# Altium integrated library ST Video VCR Rec Playback Amp.IntLib: 21 symbols
Pins are listed as number, name and electrical type; pins without a type are passive.

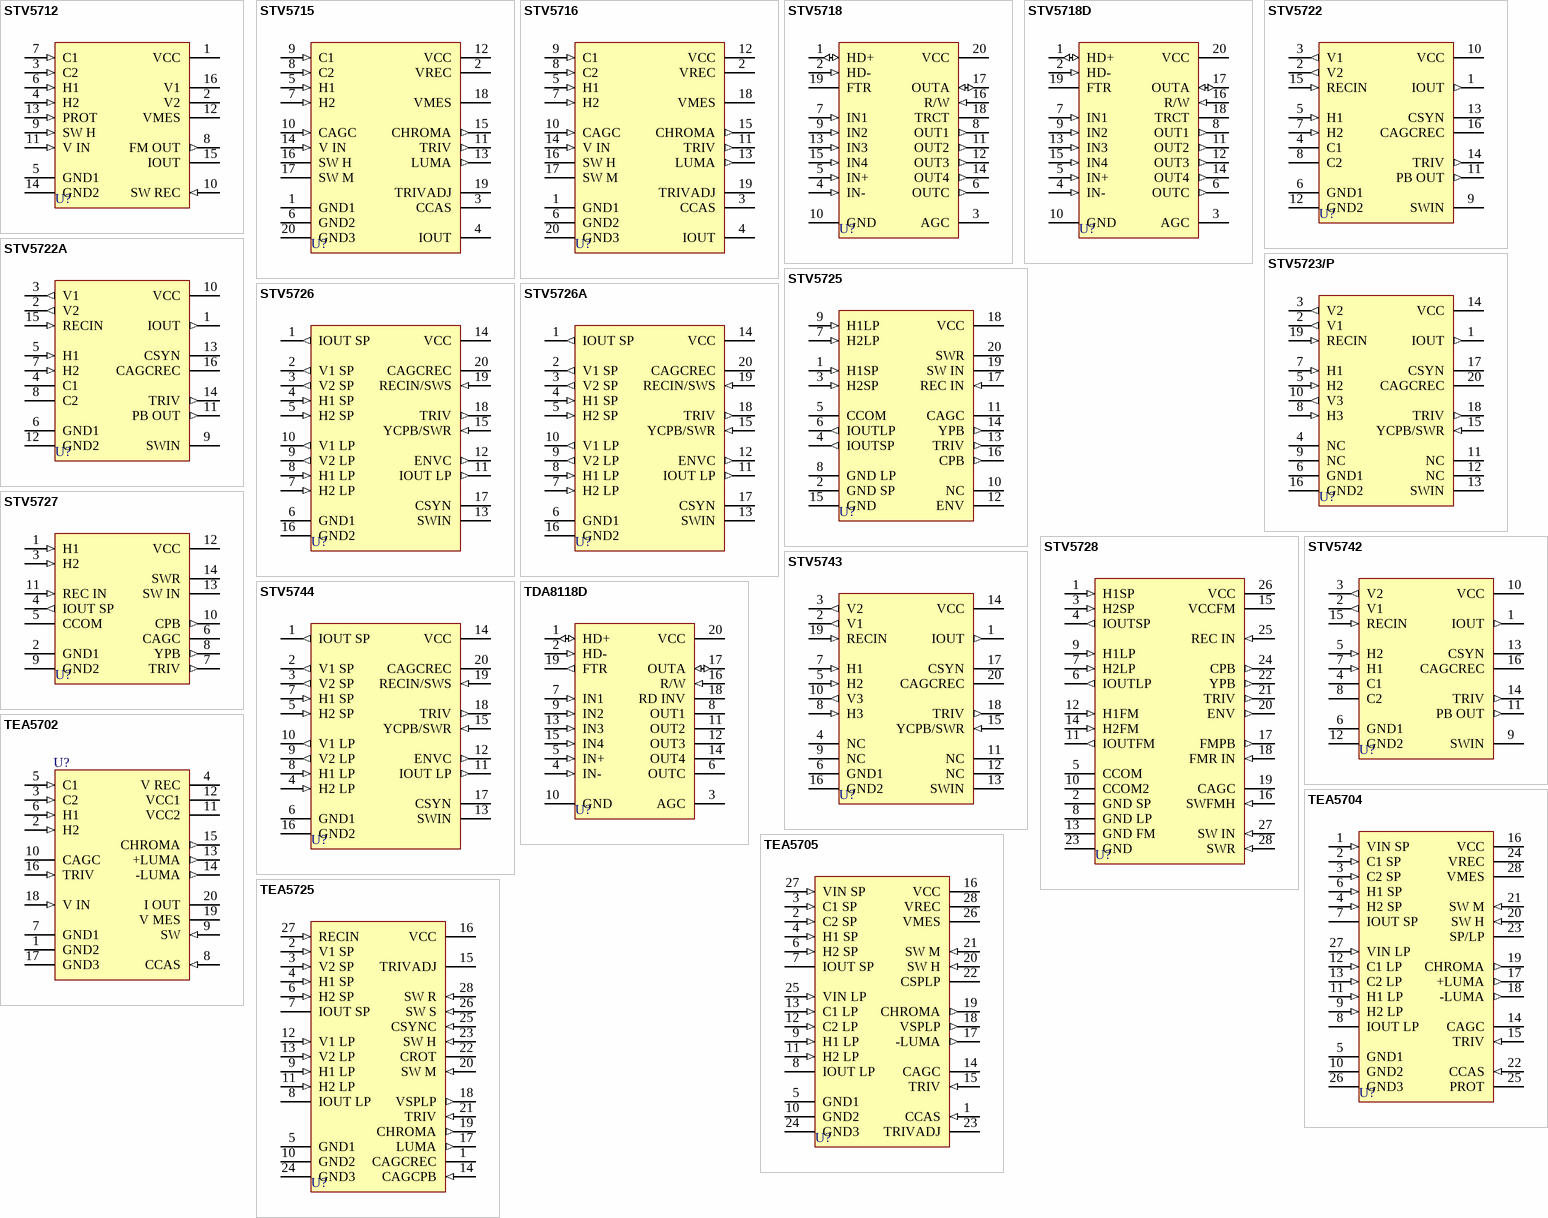
[diagram p0: symbols STV5712 to TEA5725]

## STV5712
designator U?
Advanced FM Audio Playback and Record Amplifier for VCR; Published: 24-Aug-2001; LatestRevisionDate: 17-Jul-2002; LatestRevisionNote: Re-released for DXP Platform.; DatasheetDocument: Apr-1996; PackageDocument: May-1998; PackageReference: SO16; Publisher: Altium Limited
footprint SO16 (Small Outline; 16 Leads; Body Width 3.9 mm; Pitch 1.27 mm)
pins: 1 VCC (power), 2 V2 (oe), 3 C2 (in), 4 H2 (in), 5 GND1 (power), 6 H1 (in), 7 C1 (in), 8 FM OUT (out), 9 SW H (in), 10 SW REC (in), 11 V IN (in), 12 VMES (oe), 13 PROT (in), 14 GND2 (power), 15 IOUT (oc), 16 V1 (oe)

## STV5715
designator U?
Advanced 2-Head Playback and Record Amplifier for VCR; Published: 24-Aug-2001; LatestRevisionDate: 17-Jul-2002; LatestRevisionNote: Re-released for DXP Platform.; DatasheetDocument: Nov-1993; PackageDocument: Jul-2001; PackageReference: SO20; Publisher: Altium Limited; Code_JEDEC: MS-013-AC; Code_IPC: SO20W
footprint SO20 (Small Outline, Plastic; 20 Leads; Body Width 7.5 mm; Pitch 1.27 mm)
pins: 1 GND1 (power), 2 VREC (power), 3 CCAS, 4 IOUT (oc), 5 H1 (in), 6 GND2 (power), 7 H2 (in), 8 C2 (in), 9 C1 (in), 10 CAGC (in), 11 TRIV (out), 12 VCC (power), 13 LUMA (out), 14 V IN (in), 15 CHROMA (out), 16 SW H, 17 SW M, 18 VMES (oe), 19 TRIVADJ, 20 GND3 (power)

## STV5716
designator U?
Advanced 2-Head Playback and Record Amplifier for VCR; Published: 24-Aug-2001; LatestRevisionDate: 17-Jul-2002; LatestRevisionNote: Re-released for DXP Platform.; DatasheetDocument: Feb-1994; PackageDocument: Jul-2001; PackageReference: SO20; Publisher: Altium Limited; Code_JEDEC: MS-013-AC; Code_IPC: SO20W
footprint SO20 (Small Outline, Plastic; 20 Leads; Body Width 7.5 mm; Pitch 1.27 mm)
pins: 1 GND1 (power), 2 VREC (power), 3 CCAS, 4 IOUT (oc), 5 H1 (in), 6 GND2 (power), 7 H2 (in), 8 C2 (in), 9 C1 (in), 10 CAGC (in), 11 TRIV (out), 12 VCC (power), 13 LUMA (out), 14 V IN (in), 15 CHROMA (out), 16 SW H, 17 SW M, 18 VMES (oe), 19 TRIVADJ, 20 GND3 (power)

## STV5718
designator U?
Control Head Playback and Record Amplifier and signal Interface; Published: 24-Aug-2001; LatestRevisionDate: 17-Jul-2002; LatestRevisionNote: Re-released for DXP Platform.; DatasheetDocument: Oct-1992; PackageDocument: Jun-1998; PackageReference: DIP20; Publisher: Altium Limited; Code_JEDEC: MS-015-AE
footprint DIP20 (DIP; 20 Leads; Row Spacing 7.62 mm; Pitch 2.54 mm)
pins: 1 HD+ (io), 2 HD- (in), 3 AGC, 4 IN- (in), 5 IN+ (in), 6 OUTC (out), 7 IN1 (in), 8 OUT1 (out), 9 IN2 (in), 10 GND (power), 11 OUT2 (out), 12 OUT3 (out), 13 IN3 (in), 14 OUT4 (out), 15 IN4 (in), 16 R/W (in), 17 OUTA (io), 18 TRCT, 19 FTR, 20 VCC (power)

## STV5718D
designator U?
Control Head Playback and Record Amplifier and signal Interface; Published: 24-Aug-2001; LatestRevisionDate: 17-Jul-2002; LatestRevisionNote: Re-released for DXP Platform.; DatasheetDocument: Oct-1992; PackageDocument: Jul-2001; PackageReference: SO20; Publisher: Altium Limited; Code_JEDEC: MS-013-AC; Code_IPC: SO20W
footprint SO20 (Small Outline, Plastic; 20 Leads; Body Width 7.5 mm; Pitch 1.27 mm)
pins: 1 HD+ (io), 2 HD- (in), 3 AGC, 4 IN- (in), 5 IN+ (in), 6 OUTC (out), 7 IN1 (in), 8 OUT1 (out), 9 IN2 (in), 10 GND (power), 11 OUT2 (out), 12 OUT3 (out), 13 IN3 (in), 14 OUT4 (out), 15 IN4 (in), 16 R/W (in), 17 OUTA (io), 18 TRCT, 19 FTR, 20 VCC (power)

## STV5722
designator U?
2-Head Playback and Record Amplifier for VCR; Published: 24-Aug-2001; LatestRevisionDate: 17-Jul-2002; LatestRevisionNote: Re-released for DXP Platform.; DatasheetDocument: Feb-1994; PackageDocument: May-1998; PackageReference: SO16; Publisher: Altium Limited
footprint SO16 (Small Outline; 16 Leads; Body Width 3.9 mm; Pitch 1.27 mm)
pins: 1 IOUT (out), 2 V2 (out), 3 V1 (out), 4 C1, 5 H1 (in), 6 GND1 (power), 7 H2 (in), 8 C2, 9 SWIN, 10 VCC (power), 11 PB OUT (out), 12 GND2 (power), 13 CSYN, 14 TRIV (out), 15 RECIN (in), 16 CAGCREC

## STV5722A
designator U?
2-Head Playback and Record Amplifier for VCR; Published: 24-Aug-2001; LatestRevisionDate: 17-Jul-2002; LatestRevisionNote: Re-released for DXP Platform.; DatasheetDocument: Jul-1994; PackageDocument: May-1998; PackageReference: SO16; Publisher: Altium Limited
footprint SO16 (Small Outline; 16 Leads; Body Width 3.9 mm; Pitch 1.27 mm)
pins: 1 IOUT (out), 2 V2 (out), 3 V1 (out), 4 C1, 5 H1 (in), 6 GND1 (power), 7 H2 (in), 8 C2, 9 SWIN, 10 VCC (power), 11 PB OUT (out), 12 GND2 (power), 13 CSYN, 14 TRIV (out), 15 RECIN (in), 16 CAGCREC

## STV5723/P
designator U?
3-Head Playback and Record Amplifier for VCR; Published: 24-Aug-2001; LatestRevisionDate: 17-Jul-2002; LatestRevisionNote: Re-released for DXP Platform.; DatasheetDocument: Mar-1993; PackageDocument: Jul-2001; PackageReference: SO20; Publisher: Altium Limited; Code_JEDEC: MS-013-AC; Code_IPC: SO20W
footprint SO20 (Small Outline, Plastic; 20 Leads; Body Width 7.5 mm; Pitch 1.27 mm)
pins: 1 IOUT (out), 2 V1 (out), 3 V2 (out), 4 NC, 5 H2 (in), 6 GND1 (power), 7 H1 (in), 8 H3 (in), 9 NC, 10 V3 (out), 11 NC, 12 NC, 13 SWIN, 14 VCC (power), 15 YCPB/SWR (in), 16 GND2 (power), 17 CSYN, 18 TRIV (out), 19 RECIN (in), 20 CAGCREC

## STV5725
designator U?
4-Head Playback and Record Amplifier for VCR; Published: 24-Aug-2001; LatestRevisionDate: 17-Jul-2002; LatestRevisionNote: Re-released for DXP Platform.; DatasheetDocument: Sep-1996; PackageDocument: Jul-2001; PackageReference: SO20; Publisher: Altium Limited; Code_JEDEC: MS-013-AC; Code_IPC: SO20W
footprint SO20 (Small Outline, Plastic; 20 Leads; Body Width 7.5 mm; Pitch 1.27 mm)
pins: 1 H1SP (in), 2 GND SP (power), 3 H2SP (in), 4 IOUTSP (out), 5 CCOM, 6 IOUTLP (out), 7 H2LP (in), 8 GND LP (power), 9 H1LP (in), 10 NC, 11 CAGC, 12 ENV, 13 TRIV (out), 14 YPB (out), 15 GND (power), 16 CPB (out), 17 REC IN (in), 18 VCC (power), 19 SW IN, 20 SWR

## STV5726
designator U?
4-Head Playback and Record Amplifier for VCR; Published: 24-Aug-2001; LatestRevisionDate: 17-Jul-2002; LatestRevisionNote: Re-released for DXP Platform.; DatasheetDocument: Feb-1994; PackageDocument: Jul-2001; PackageReference: SO20; Publisher: Altium Limited; Code_JEDEC: MS-013-AC; Code_IPC: SO20W
footprint SO20 (Small Outline, Plastic; 20 Leads; Body Width 7.5 mm; Pitch 1.27 mm)
pins: 1 IOUT SP (out), 2 V1 SP (out), 3 V2 SP (out), 4 H1 SP (in), 5 H2 SP (in), 6 GND1 (power), 7 H2 LP (in), 8 H1 LP (in), 9 V2 LP (out), 10 V1 LP (out), 11 IOUT LP (out), 12 ENVC (out), 13 SWIN, 14 VCC (power), 15 YCPB/SWR (in), 16 GND2 (power), 17 CSYN, 18 TRIV (out), 19 RECIN/SWS (in), 20 CAGCREC

## STV5726A
designator U?
4-Head Playback and Record Amplifier for VCR; Published: 24-Aug-2001; LatestRevisionDate: 17-Jul-2002; LatestRevisionNote: Re-released for DXP Platform.; DatasheetDocument: Feb-1997; PackageDocument: Jul-2001; PackageReference: SO20; Publisher: Altium Limited; Code_JEDEC: MS-013-AC; Code_IPC: SO20W
footprint SO20 (Small Outline, Plastic; 20 Leads; Body Width 7.5 mm; Pitch 1.27 mm)
pins: 1 IOUT SP (out), 2 V1 SP (out), 3 V2 SP (out), 4 H1 SP (in), 5 H2 SP (in), 6 GND1 (power), 7 H2 LP (in), 8 H1 LP (in), 9 V2 LP (out), 10 V1 LP (out), 11 IOUT LP (out), 12 ENVC (out), 13 SWIN, 14 VCC (power), 15 YCPB/SWR (in), 16 GND2 (power), 17 CSYN, 18 TRIV (out), 19 RECIN/SWS (in), 20 CAGCREC

## STV5727
designator U?
2-Head Playback and Record Amplifier for VCR; Published: 24-Aug-2001; LatestRevisionDate: 17-Jul-2002; LatestRevisionNote: Re-released for DXP Platform.; DatasheetDocument: Sep-1996; PackageDocument: Sep-1998; PackageReference: SO14; Publisher: Altium Limited
footprint SO14 (Small Outline; 14 Leads; Body Width 3.9 mm; Pitch 1.27 mm)
pins: 1 H1 (in), 2 GND1 (power), 3 H2 (in), 4 IOUT SP (out), 5 CCOM, 6 CAGC, 7 TRIV (out), 8 YPB (out), 9 GND2 (power), 10 CPB (out), 11 REC IN (in), 12 VCC (power), 13 SW IN, 14 SWR

## STV5728
designator U?
4-Head Video and 2-Heads Hi-Fi Audio Playback and Record Amplifier for VCR; Published: 24-Aug-2001; LatestRevisionDate: 17-Jul-2002; LatestRevisionNote: Re-released for DXP Platform.; DatasheetDocument: May-1997; PackageDocument: Jul-2001; PackageReference: SO28; Publisher: Altium Limited; Code_IPC: SO28W
footprint SO28 (Small Outline, Plastic; 28 Leads; Body Width 7.5 mm; Pitch 1.27 mm)
pins: 1 H1SP (in), 2 GND SP (power), 3 H2SP (in), 4 IOUTSP (out), 5 CCOM (power), 6 IOUTLP (out), 7 H2LP (in), 8 GND LP (power), 9 H1LP (in), 10 CCOM2 (power), 11 IOUTFM (out), 12 H1FM (in), 13 GND FM (power), 14 H2FM (in), 15 VCCFM (power), 16 SWFMH (in), 17 FMPB (out), 18 FMR IN (in), 19 CAGC, 20 ENV (out), 21 TRIV (out), 22 YPB (out), 23 GND (power), 24 CPB (out), 25 REC IN (in), 26 VCC (power), 27 SW IN (in), 28 SWR (in)

## STV5742
designator U?
2-Head Playback and Record Amplifier for VCR; Published: 24-Aug-2001; LatestRevisionDate: 17-Jul-2002; LatestRevisionNote: Re-released for DXP Platform.; DatasheetDocument: Feb-1997; PackageDocument: May-1998; PackageReference: SO16; Publisher: Altium Limited
footprint SO16 (Small Outline; 16 Leads; Body Width 3.9 mm; Pitch 1.27 mm)
pins: 1 IOUT (out), 2 V1 (out), 3 V2 (out), 4 C1, 5 H2 (in), 6 GND1 (power), 7 H1 (in), 8 C2, 9 SWIN, 10 VCC (power), 11 PB OUT (out), 12 GND2 (power), 13 CSYN, 14 TRIV (out), 15 RECIN (in), 16 CAGCREC

## STV5743
designator U?
3-Head Playback and Record Amplifier for VCR; Published: 24-Aug-2001; LatestRevisionDate: 17-Jul-2002; LatestRevisionNote: Re-released for DXP Platform.; DatasheetDocument: Jan-1995; PackageDocument: Jul-2001; PackageReference: SO20; Publisher: Altium Limited; Code_JEDEC: MS-013-AC; Code_IPC: SO20W
footprint SO20 (Small Outline, Plastic; 20 Leads; Body Width 7.5 mm; Pitch 1.27 mm)
pins: 1 IOUT (out), 2 V1 (out), 3 V2 (out), 4 NC, 5 H2 (in), 6 GND1 (power), 7 H1 (in), 8 H3 (in), 9 NC, 10 V3 (out), 11 NC, 12 NC, 13 SWIN, 14 VCC (power), 15 YCPB/SWR (in), 16 GND2 (power), 17 CSYN, 18 TRIV (out), 19 RECIN (in), 20 CAGCREC

## STV5744
designator U?
4-Head Playback and Record Amplifier for VCR; Published: 24-Aug-2001; LatestRevisionDate: 17-Jul-2002; LatestRevisionNote: Re-released for DXP Platform.; DatasheetDocument: Apr-1996; PackageDocument: Jul-2001; PackageReference: SO20; Publisher: Altium Limited; Code_JEDEC: MS-013-AC; Code_IPC: SO20W
footprint SO20 (Small Outline, Plastic; 20 Leads; Body Width 7.5 mm; Pitch 1.27 mm)
pins: 1 IOUT SP (out), 2 V1 SP (out), 3 V2 SP (out), 4 H2 LP (in), 5 H2 SP (in), 6 GND1 (power), 7 H1 SP (in), 8 H1 LP (in), 9 V2 LP (out), 10 V1 LP (out), 11 IOUT LP (out), 12 ENVC (out), 13 SWIN, 14 VCC (power), 15 YCPB/SWR (in), 16 GND2 (power), 17 CSYN, 18 TRIV (out), 19 RECIN/SWS (in), 20 CAGCREC

## TDA8118D
designator U?
Control Head Playback and Record Amplifier and signal Interface; Published: 24-Aug-2001; LatestRevisionDate: 17-Jul-2002; LatestRevisionNote: Re-released for DXP Platform.; DatasheetDocument: Aug-1992; PackageDocument: Jul-2001; PackageReference: SO20; Publisher: Altium Limited; Code_JEDEC: MS-013-AC; Code_IPC: SO20W
footprint SO20 (Small Outline, Plastic; 20 Leads; Body Width 7.5 mm; Pitch 1.27 mm)
pins: 1 HD+ (io), 2 HD- (in), 3 AGC, 4 IN- (in), 5 IN+ (in), 6 OUTC (oc), 7 IN1 (in), 8 OUT1 (oc), 9 IN2 (in), 10 GND (power), 11 OUT2 (oc), 12 OUT3 (oc), 13 IN3 (in), 14 OUT4 (oc), 15 IN4 (in), 16 R/W (in), 17 OUTA (io), 18 RD INV, 19 FTR (out), 20 VCC (power)

## TEA5702
designator U?
Advanced 2-Head Playback and Record Amplifier for VCR; Published: 24-Aug-2001; LatestRevisionDate: 17-Jul-2002; LatestRevisionNote: Re-released for DXP Platform.; DatasheetDocument: Jul-1992; PackageDocument: Jul-2001; PackageReference: SO20; Publisher: Altium Limited; Code_JEDEC: MS-013-AC; Code_IPC: SO20W
footprint SO20 (Small Outline, Plastic; 20 Leads; Body Width 7.5 mm; Pitch 1.27 mm)
pins: 1 GND2 (power), 2 H2 (in), 3 C2 (in), 4 V REC (power), 5 C1 (in), 6 H1 (in), 7 GND1 (power), 8 CCAS (in), 9 SW (in), 10 CAGC, 11 VCC2 (power), 12 VCC1 (power), 13 +LUMA (out), 14 -LUMA (out), 15 CHROMA (out), 16 TRIV (in), 17 GND3 (power), 18 V IN (in), 19 V MES (oe), 20 I OUT (oc)

## TEA5704
designator U?
Advanced 4-Head Playback and Record Amplifier for VCR; Published: 24-Aug-2001; LatestRevisionDate: 17-Jul-2002; LatestRevisionNote: Re-released for DXP Platform.; DatasheetDocument: Aug-1992; PackageDocument: Jul-2001; PackageReference: SO28; Publisher: Altium Limited; Code_IPC: SO28W
footprint SO28 (Small Outline, Plastic; 28 Leads; Body Width 7.5 mm; Pitch 1.27 mm)
pins: 1 VIN SP (in), 2 C1 SP (in), 3 C2 SP (in), 4 H2 SP (in), 5 GND1 (power), 6 H1 SP (in), 7 IOUT SP (oc), 8 IOUT LP (oc), 9 H2 LP (in), 10 GND2 (power), 11 H1 LP (in), 12 C1 LP (in), 13 C2 LP (in), 14 CAGC, 15 TRIV (in), 16 VCC (power), 17 +LUMA (out), 18 -LUMA (out), 19 CHROMA (out), 20 SW H (in), 21 SW M (in), 22 CCAS (in), 23 SP/LP, 24 VREC (power), 25 PROT, 26 GND3 (power), 27 VIN LP (in), 28 VMES (oe)

## TEA5705
designator U?
Advanced 4-Head Playback and Record Amplifier for VCR; Published: 24-Aug-2001; LatestRevisionDate: 26-May-2004; LatestRevisionNote: PCB Footprint adjusted to match with IPC-SM-782.; DatasheetDocument: Nov-1992; PackageDocument: Jul-2001; PackageReference: SO28; Publisher: Altium Limited; Code_IPC: SO28W
footprint SO28 (Small Outline, Plastic; 28 Leads; Body Width 7.5 mm; Pitch 1.27 mm)
pins: 1 CCAS (in), 2 C2 SP (in), 3 C1 SP (in), 4 H1 SP (in), 5 GND1 (power), 6 H2 SP (in), 7 IOUT SP (oc), 8 IOUT LP (oc), 9 H1 LP (in), 10 GND2 (power), 11 H2 LP (in), 12 C2 LP (in), 13 C1 LP (in), 14 CAGC, 15 TRIV (in), 16 VCC (power), 17 -LUMA (out), 18 VSPLP (out), 19 CHROMA (out), 20 SW H (in), 21 SW M (in), 22 CSPLP, 23 TRIVADJ, 24 GND3 (power), 25 VIN LP (in), 26 VMES (oe), 27 VIN SP (in), 28 VREC (power)

## TEA5725
designator U?
4-Head Playback and Record Amplifier for VCR; Published: 24-Aug-2001; LatestRevisionDate: 26-May-2004; LatestRevisionNote: PCB Footprint adjusted to match with IPC-SM-782.; DatasheetDocument: Nov-1992; PackageDocument: Jul-2001; PackageReference: SO28; Publisher: Altium Limited; Code_IPC: SO28W
footprint SO28 (Small Outline, Plastic; 28 Leads; Body Width 7.5 mm; Pitch 1.27 mm)
pins: 1 CAGCREC, 2 V1 SP (in), 3 V2 SP (in), 4 H1 SP (in), 5 GND1 (power), 6 H2 SP (in), 7 IOUT SP (oc), 8 IOUT LP (oc), 9 H1 LP (in), 10 GND2 (power), 11 H2 LP (in), 12 V1 LP (in), 13 V2 LP (in), 14 CAGCPB (in), 15 TRIVADJ, 16 VCC (power), 17 LUMA (out), 18 VSPLP (out), 19 CHROMA (out), 20 SW M (in), 21 TRIV (in), 22 CROT, 23 SW H (in), 24 GND3 (power), 25 CSYNC (in), 26 SW S (in), 27 RECIN (in), 28 SW R (in)